# Altium schematic symbol library AirScoutSchLibV2.1.SchLib: 40 symbols
Pins are listed as number, name and electrical type; pins without a type are passive.

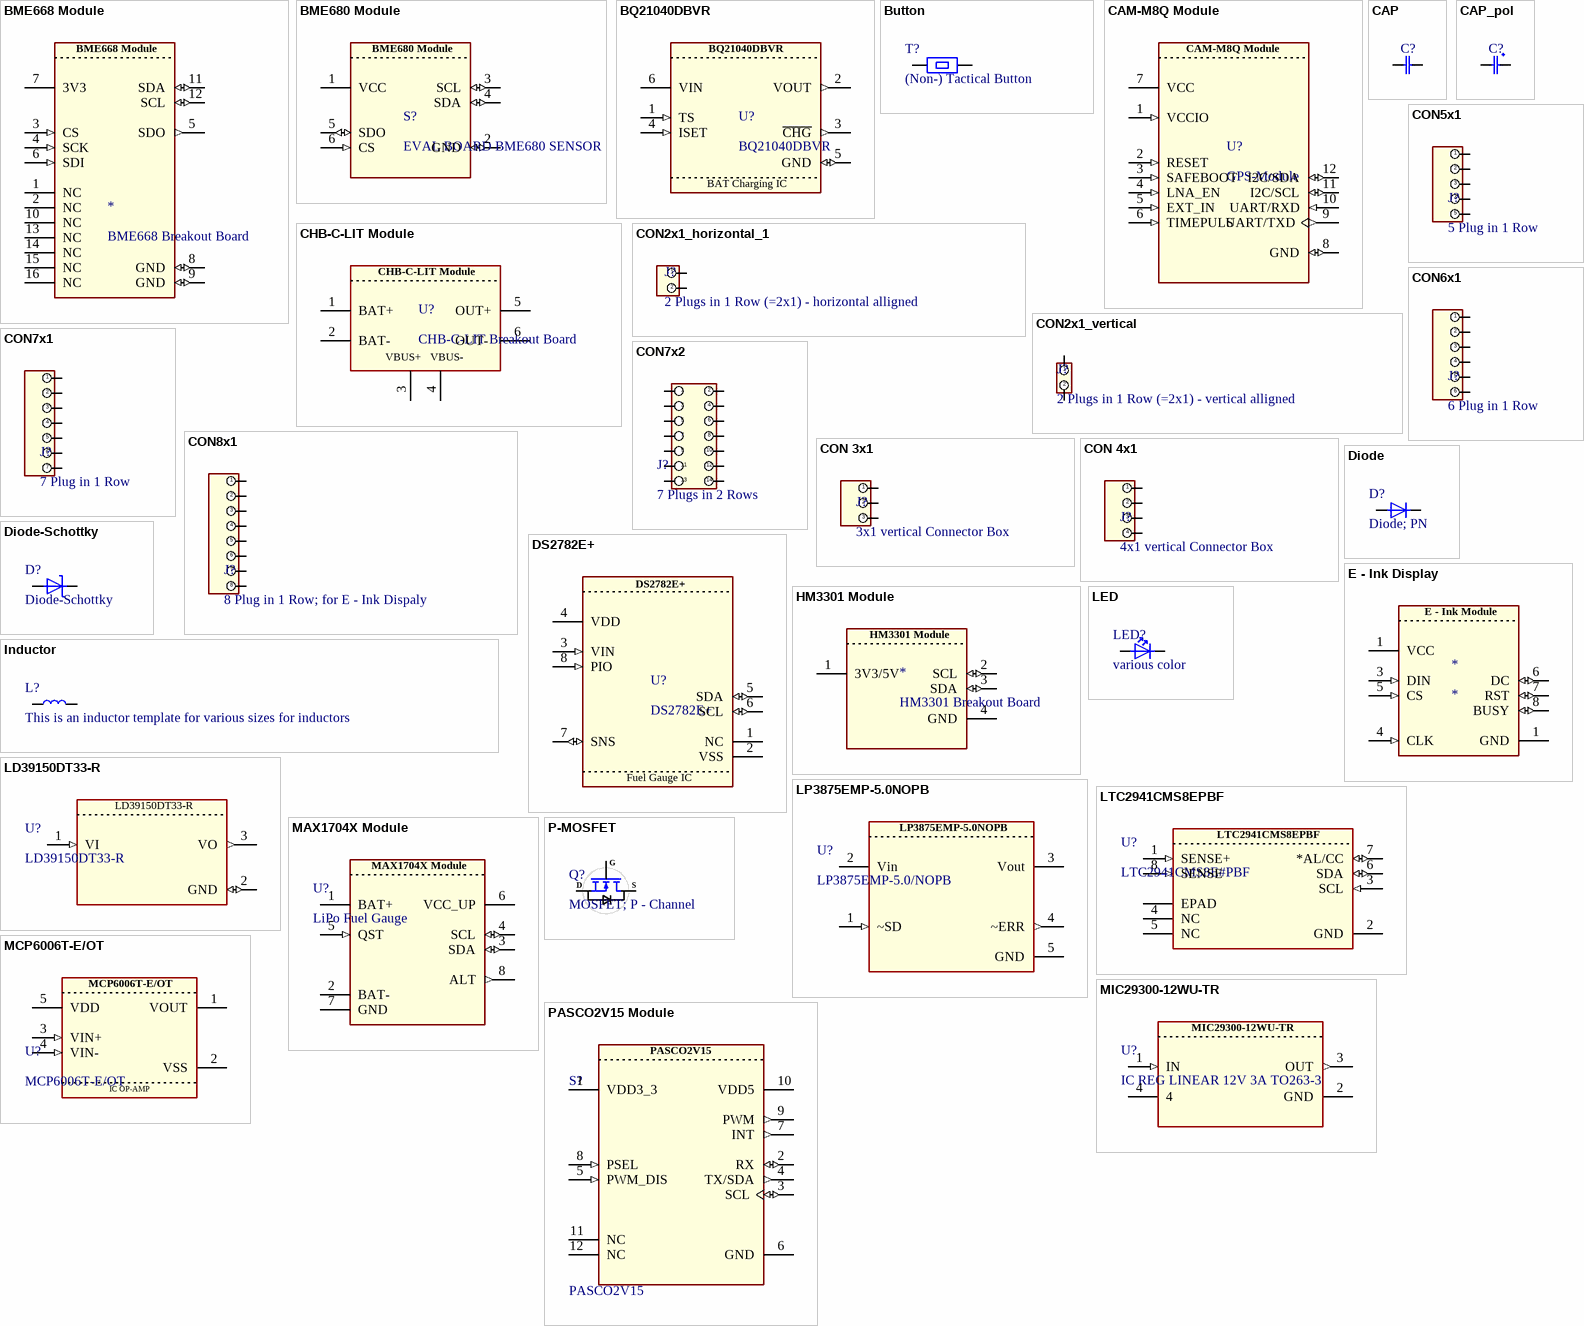
[diagram p0: symbols BME668 Module to PASCO2V15 Module]

## BME668 Module
designator *, comment BME668 Breakout Board
BME668: Air Quality Sensors Combined gas, humidity, pressure and temperature sensor; The sensor is installed on an Breakout-Board wich has oll the needed peripherie.; ComponentLink1Description: Datasheet; ComponentLink1URL: chrome-extension://efaidnbmnnnibpcajpcglclefindmkaj/https://docs.rs-online.com/c92c/A700000008937254.pdf
pins: 1 NC (hiz), 2 NC (hiz), 3 CS (in), 4 SCK (in), 5 SDO (out), 6 SDI (in), 7 3V3 (power), 8 GND (io), 9 GND (io), 10 NC (hiz), 11 SDA (io), 12 SCL (io), 13 NC (hiz), 14 NC (hiz), 15 NC (hiz), 16 NC (hiz)

## BME680 Module
designator S?, comment EVAL BOARD BME680 SENSOR
BME680 - Gas, Feuchtigkeit, Druck, Temperatur Evaluierungsboards - Sensoren; ComponentLink1Description: Datasheet; ComponentLink1URL: chrome-extension://efaidnbmnnnibpcajpcglclefindmkaj/https://mm.digikey.com/Volume0/opasdata/d220001/medias/docus/854/PIM357_Web.pdf
footprint PIM357 (With BME680 Sensor)
pins: 1 VCC (power), 2 GND (io), 3 SCL (io), 4 SDA (io), 5 SDO (io), 6 CS (in)

## BQ21040DBVR
designator U?
OVP (Over-Voltage-Protection), SCP (Short-Circuit- Protection), OTP (Over - Temp. - Prot.); 1-cell, 0.8-A Li-ion and Li-polymer battery charger; MF: Texas Instruments; SnapEDA_Link: https://www.snapeda.com/parts/BQ21040DBVR/Texas+Instruments/view-part/?ref=snap; Package: SOT-23-6 Texas Instruments; Value: *; MP: BQ21040DBVR; Check_prices: https://www.snapeda.com/parts/BQ21040DBVR/Texas+Instruments/view-part/?ref=eda
footprint SOT95P280X145-6N
pins: 1 TS (in), 2 VOUT (out), 3 ~{CHG} (out), 4 ISET (in), 5 GND (io), 6 VIN (power)
text: BAT Charging IC

## Button
designator T?, comment (Non-) Tactical Button
This schematic footprint canm be used for various buttons, such as tactical ones or not. Be aware that all footprints for each part is added correctly
pins: 1, 1

## CAM-M8Q Module
designator U?, comment GPS-Module
Is used to locate the objects wehre it is implemented, The Breakout Board uses the CAM-M8Q-0 for location detection; ComponentLink1Description: Datasheet IC; ComponentLink1URL: chrome-extension://efaidnbmnnnibpcajpcglclefindmkaj/https://content.u-blox.com/sites/default/files/CAM-M8-FW3_DataSheet_%28UBX-15031574%29.pdf
footprint CAM8MQ-Mod (For SMD Soldering)
pins: 1 VCCIO (in), 2 RESET (in), 3 SAFEBOOT (in), 4 LNA_EN (in), 5 EXT_IN (in), 6 TIMEPULS (in), 7 VCC (power), 8 GND (io), 9 UART/TXD (out), 10 UART/RXD (in), 11 I2C/SCL (io), 12 I2C/SDA (io)

## CAP
designator C?, comment Capacitor with no polarity  (value not drawn)
This is an unpoled capacitor such as an ceramik or an Multi - Layer Cap. Put in here the description of your component.; Value: *
footprint CAPC340180_140N_KEM (Caseform: 1206 Imperial; for Caps)
pins: 1, 2

## CAP_pol
designator C?, comment Capacitor with polarity  (value not drawn)
This is an poled capacitor such as an ELKOP. Insure proper polartiy when connecting the pins of the cap. Put in here the description of your component.; Value: *
footprint CAPC3225X270N (CAP 1210 Imperial)
pins: 1 M, 2 P

## CHB-C-LIT Module
designator U?, comment CHB-C-LIT Breakout Board
Charging Board via USB-C; Battery is connected via Cabel on two Ports; The circuit gets supplied via other pads from the board; Attetion: This board should be replaced with a better one
pins: 1 BAT+ (power), 2 BAT- (power), 3 VBUS+ (power), 4 VBUS- (power), 5 OUT+ (power), 6 OUT-  (power)

## CON2x1_horizontal_1
designator J?, comment 2 Plugs in 1 Row (=2x1) - horizontal alligned
Can be used as connection point with cables between two board or to create a connectrion to a sensor
footprint JST_B2B-PH-SM4-TB
pins: 1 +, 2 -

## CON2x1_vertical
designator J?, comment 2 Plugs in 1 Row (=2x1) - vertical alligned
Can be used as connection point with cables between two board or to create a connectrion to a sensor
footprint CON2x1
pins: 1 +, 2 -

## CON5x1
designator J?, comment 5 Plug in 1 Row
This part is used to plug in cables or a siutable Plug . So in that way a connection can be achieved between boards.
pins: 1, 2, 3, 4, 5

## CON6x1
designator J?, comment 6 Plug in 1 Row
This part is used to plug in cables or a siutable Plug . So in that way a connection can be achieved between boards.
footprint JST_B6B-PH-K-S
pins: 1, 2, 3, 4, 5, 6

## CON7x1
designator J?, comment 7 Plug in 1 Row
This part is used to plug in cables or a siutable Plug . So in that way a connection can be achieved between boards.
pins: 1, 2, 3, 4, 5, 6, 7

## CON7x2
designator J?, comment 7 Plugs in 2 Rows
This part is used to plug in cables or a siutable Plug . So in that way a connection can be achieved between boards.
footprint CONN_14POL_SAMTEC (0705430013)
pins: 1, 2, 3, 4, 5, 6, 7, 8, 9, 10, 11, 12, 13, 14

## CON8x1
designator J?, comment 8 Plug in 1 Row; for E - Ink Dispaly
This part is used to plug in cables or a siutable Plug . So in that way a connection can be achieved between boards.
pins: 1, 2, 3, 4, 5, 6, 7, 8

## CON 3x1
designator J?, comment 3x1 vertical Connector Box
Can be used to create connectivity between two plates with cables or similar.
footprint CONN_3POL_SAMTEC (0705430013)
pins: 1, 2, 3

## CON 4x1
designator J?, comment 4x1 vertical Connector Box
Can be used to create connectivity between two plates with cables or similar.
footprint SAMTEC_IDMS-04-S-02.00
pins: 1, 2, 3, 4

## Diode
designator D?, comment Diode; PN
Is used to block of current flow in one direction, Pay attetion to the maximum charactertcs
pins: 1 A, 2 K

## Diode-Schottky
designator D?
Is used to block of current flow in one direction, Pay attetion to the maximum charactertcs; In compariosion to other normal diodes the drop voltage UD is around 0.3V, so much smaller zthan an typical one
footprint SMB_DIO
pins: A, K

## DS2782E+
designator U?
UVP (Undervoltageprotection), Battery Battery Monitor IC Lithium Ion/Polymer 8-TSSOP; Package: None; Price: None; Value: *; MP: DS2782E+; Availability: Unavailable
footprint SOP65P640X110-8N
pins: 1 NC (power), 2 VSS (power), 3 VIN (in), 4 VDD (power), 5 SDA (io), 6 SCL (io), 7 SNS (io), 8 PIO (in)
text: Fuel Gauge IC

## E - Ink Display
designator *
pins: 1 VCC (power), 1 GND (power), 3 DIN (in), 4 CLK (in), 5 CS (in), 6 DC (io), 7 RST (io), 8 BUSY (io)
text: E - Ink Module

## HM3301 Module
designator *, comment HM3301 Breakout Board
Der HM3301-Sensor ermittelt die Feinstaub-Partikelkonzentration in der Luft mit Hilfe des Streulichtverfahrens ab einer Partikelgröße von 0,3 µm.; ComponentLink1Description: Datasheet; ComponentLink1URL: chrome-extension://efaidnbmnnnibpcajpcglclefindmkaj/https://joy-it.net/files/files/Produkte/SEN-HM3301/SEN-HM3301_Datenblatt_2022-07-15.pdf; ComponentLink2Description: EU Component; ComponentLink2URL: https://joy-it.net/de/products/sen-hm3301
pins: 1 3V3/5V, 2 SCL (io), 3 SDA (io), 4 GND

## Inductor
designator L?, comment This is an inductor template for various sizes for inductors
Value: *
footprint IND_FDSD0420-H-100M=P3
pins: 1, 2

## LD39150DT33-R
designator U?
Ultra low drop BiCMOS voltage regulator; Manufacturer_Name: STMicroelectronics; Copyright: Copyright (C) 2025 Ultra Librarian. All rights reserved.; Manufacturer_Part_Number: LD39150DT33-R; Datasheet: https://www.st.com/resource/en/datasheet/ld39150.pdf; RefDes: RefDes; Type: Type
footprint SOT_0DT33-R_STM
pins: 1 VI (in), 2 GND (io), 3 VO (out)

## LED
designator LED?, comment various color
LED in diffrent colors
footprint LED_LTST-C150GKT_LTO
pins: 1 A, 2 K

## LP3875EMP-5.0NOPB
designator U?, comment LP3875EMP-5.0/NOPB
IC REG LINEAR 5V 1.5A SOT-223-5; Digikey Part-Nbr.: LP3875EMP-5.0/NOPBTR-ND; Manufacturer_Name: Texas Instruments; Type: LP3875EMP-1.8; Copyright: Copyright (C) 2025 Ultra Librarian. All rights reserved.; Manufacturer_Part_Number: LP3875EMP-5.0/NOPB; Datasheet: https://www.ti.com/lit/gpn/lp3875; RefDes: RefDes
footprint MP05A
pins: 1 ~SD (in), 2 Vin (power), 3 Vout (power), 4 ~ERR (out), 5 GND

## LTC2941CMS8EPBF
designator U?, comment LTC2941CMS8E#PBF
Battery Gas Gauge with I2C Interface; Manufacturer_Name: Analog Devices Inc; Copyright: Copyright (C) 2025 Ultra Librarian. All rights reserved.; Manufacturer_Part_Number: LTC2941CMS8E#PBF; Datasheet: https://www.analog.com/media/en/technical-documentation/data-sheets/LTC2941.pdf; RefDes: RefDes; Type: Type
footprint MSE_8_ADI-L
pins: 1 SENSE+ (in), 2 GND (power), 3 SCL (in), 4 NC, 5 NC, 6 SDA (io), 7 *AL/CC (io), 8 SENSE (in), EPAD

## MAX1704X Module
designator U?, comment LiPo Fuel Gauge
footprint MAX1704X Module (Breakout Board)
pins: 1 BAT+ (power), 2 BAT- (power), 3 SDA (io), 4 SCL (io), 5 QST (in), 6 VCC_UP (power), 7 GND (power), 8 ALT (out)

## MCP6006T-E/OT
designator U?
IC OPAMP GP 1 CIRCUIT SOT23-5
footprint SOT23-5-AP2202K_DIO-M
pins: 1 VOUT (power), 2 VSS (power), 3 VIN+ (in), 4 VIN- (in), 5 VDD (power)
text: IC OP-AMP

## MIC29300-12WU-TR
designator U?, comment IC REG LINEAR 12V 3A TO263-3
PMIC - Spannungsregler - Linear Positiv Fest 1 Ausgang 3A TO-263-3; Manufacturer_Name: Microchip; Manufacturer_Part_Number: MIC29300-12WU-TR; Copyright: Copyright (C) 2025 Ultra Librarian. All rights reserved.; RefDes: RefDes; Type: Type
footprint TO-263-3_MCH-M
pins: 1 IN (in), 2 GND (power), 3 OUT (out), 4

## P-MOSFET
designator Q?, comment MOSFET; P - Channel
In this component, the parasitic diode is included because it plays an important rolw hen analysing networks
footprint TO229P994X241-3N-V (TO,2.29mm pitch;2 pin,9.94mm L X 6.095mm W X 2.41mm H body)
pins: 1 D, 2 G, 3 S

## PASCO2V15 Module
designator S?, comment PASCO2V15
XENSIV PAS CO2 1.5; Alternate View: No; Symbol Type: XENSIV PAS CO2 1.5; Multiple Parts: No; ComponentLink1Description: Datasheet; ComponentLink1URL: chrome-extension://efaidnbmnnnibpcajpcglclefindmkaj/https://www.infineon.com/assets/row/public/documents/24/49/infineon-pasco2v01-datasheet-en.pdf?fileId=8ac78c8c80027ecd01809278f1af1ba2
footprint IFX-SMD-LG-MLGA-14-1-V_MODUL (Module, 2.54 mm Pitch, 14 Pin, 14.00 mm W X 13.80 mm L X 7.68 mm H Body)
pins: 1 VDD3_3 (power) "3.3V digital power supply", 2 RX (io) "UART receiver pin (3.3V domain)", 3 SCL (io) "I2C clock pin (3.3V domain)", 4 TX/SDA (out) "UART transmitter pin (3.3V domain) / I2C data pin (3.3V domain)", 5 PWM_DIS (in) "PWM disable input pin (3.3V domain)", 6 GND (power) "Ground", 7 INT (out) "Interrupt output pin (3.3V domain)", 8 PSEL (in) "Communication interface select input pin (3.3V domain)", 9 PWM (out) "PWM output pin (3.3V domain)", 10 VDD5 (power) "5V power supply for the IR emitter", 11 NC (power) "Connected to Ground", 12 NC "Not Connected"

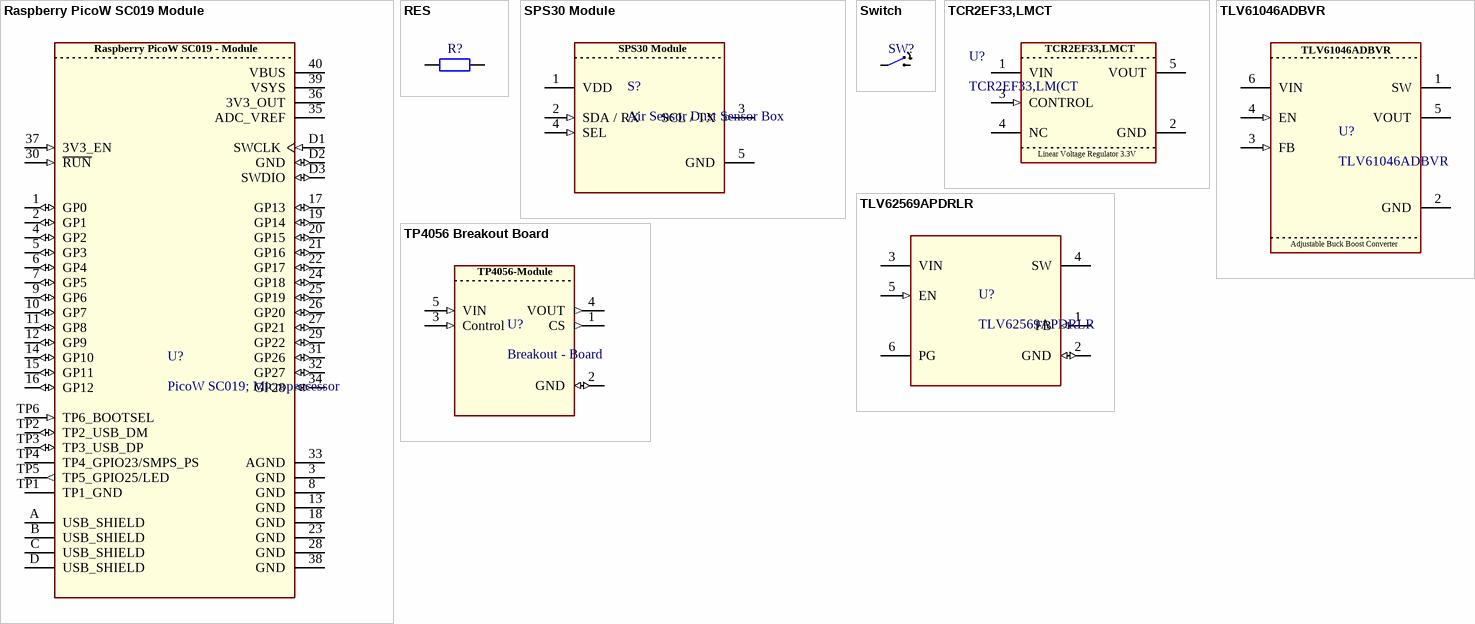
[diagram p1: symbols Raspberry PicoW SC019 Module to TP4056 Breakout Board]

## Raspberry PicoW SC019 Module
designator U?, comment PicoW SC019; Microprocessor
Is a uC equipped with the Raspberry System. It can be bougth as an EU component. Look below in Paramters; ComponentLink1Description: EU Component; ComponentLink1URL: https://www.reichelt.at/at/de/shop/produkt/raspberry_pi_pico_rp2040_cortex-m0_microusb-295706; ComponentLink2Description: Datasheet; ComponentLink2URL: chrome-extension://efaidnbmnnnibpcajpcglclefindmkaj/https://datasheets.raspberrypi.com/picow/pico-w-datasheet.pdf
footprint PicoW SC019 (For Description look into Schematics)
pins: 1 GP0 (io), 2 GP1 (io), 3 GND (power), 4 GP2 (io), 5 GP3 (io), 6 GP4 (io), 7 GP5 (io), 8 GND (power), 9 GP6 (io), 10 GP7 (io), 11 GP8 (io), 12 GP9 (io), 13 GND (power), 14 GP10 (io), 15 GP11 (io), 16 GP12 (io), 17 GP13 (io), 18 GND (power), 19 GP14 (io), 20 GP15 (io), 21 GP16 (io), 22 GP17 (io), 23 GND (power), 24 GP18 (io), 25 GP19 (io), 26 GP20 (io), 27 GP21 (io), 28 GND (power), 29 GP22 (io), 30 ~{RUN} (in), 31 GP26 (io), 32 GP27 (io), 33 AGND (power), 34 GP28 (io), 35 ADC_VREF (power), 36 3V3_OUT (power), 37 3V3_EN (in), 38 GND (power), 39 VSYS (power), 40 VBUS (power), A USB_SHIELD (power), B USB_SHIELD (power), C USB_SHIELD (power), D USB_SHIELD (power), D1 SWCLK (in), D2 GND (io), D3 SWDIO (io), TP1 TP1_GND (power), TP2 TP2_USB_DM (io), TP3 TP3_USB_DP (io), TP4 TP4_GPIO23/SMPS_PS, TP5 TP5_GPIO25/LED (out), TP6 TP6_BOOTSEL (in)
text: Raspberry PicoW SC019 - Module

## RES
designator R?, comment Resistor of any value  (value not drawn)
Put in here the type and descriüption of your component; Value: *
footprint RESC3116X65N (Caseform: 1206 Imperial)
pins: 1, 2

## SPS30 Module
designator S?, comment Air Sensor Dust Sensor Box
ComponentLink1Description: Datasheet; ComponentLink1URL: https://sensirion.com/media/documents/8600FF88/64A3B8D6/Sensirion_PM_Sensors_Datasheet_SPS30.pdf; ComponentLink2Description: EU Component; ComponentLink2URL: https://www.digikey.at/en/products/detail/sensirion-ag/SPS30/9598990?gclsrc=aw.ds&gad_source=1&gad_campaignid=9415055229&gbraid=0AAAAADrbLlghU28cdFM9RQIiS448Os4NQ&gclid=Cj0KCQjwzt_FBhCEARIsAJGFWVladtv1vxGMu0RXHFTM9ng6qsDvV838Q-BR2Fl5FYFzWahIkC0y_aYaAqE3EALw_wcB
footprint CONN5_B5B-ZR_JST
pins: 1 VDD, 2 SDA / RX (in), 3 SCL / TX (out), 4 SEL (in), 5 GND

## Switch
designator SW?  (value not drawn)
Put in here a switch with an OFFSET - Pin, like an ON/OFF Switch (2 Position Switch)
footprint SW_PTS647SM38SMTR2LFS_CNK
pins: 1, 2

## TCR2EF33,LMCT
designator U?, comment TCR2EF33,LM(CT
IC REG LINEAR 3.3V 200MA SMV; Manufacturer_Name: Toshiba Electronic Devices & Storage Corp.; Copyright: Copyright (C) 2025 Ultra Librarian. All rights reserved.; Manufacturer_Part_Number: TCR2EF33,LM(CT; RefDes: RefDes; Type: Type
footprint SOT-25   SMV_TOS
pins: 1 VIN (power), 2 GND (power), 3 CONTROL (in), 4 NC, 5 VOUT (power)
text: Linear Voltage Regulator 3.3V

## TLV61046ADBVR
designator U?
28-V Output Voltage Boost Converter with Power Diode and Isolation Switch 6-SOT-23 -40 to 125; Manufacturer_Name: Texas Instruments; TYPE: TYPE; RefDes: RefDes; Copyright: Copyright (C) 2025 Ultra Librarian. All rights reserved.; Manufacturer_Part_Number: TLV61046ADBVR
footprint DBV0006A_M
pins: 1 SW (power), 2 GND (power), 3 FB (in), 4 EN (in), 5 VOUT (power), 6 VIN (power)
text: Adjustable Buck Boost Converter

## TLV62569APDRLR
designator U?
2A High Efficiency Step-down Buck Converter with forced PWM in SOT Package 6-SOT-5X3 -40 to 125; Manufacturer_Name: Texas Instruments; TYPE: TYPE; RefDes: RefDes; Copyright: Copyright (C) 2025 Ultra Librarian. All rights reserved.; Manufacturer_Part_Number: TLV62569APDRLR; Datasheet: https://www.ti.com/lit/gpn/tlv62569a
footprint DRL0006A
pins: 1 FB (in), 2 GND (io), 3 VIN (power), 4 SW (power), 5 EN (in), 6 PG (oc)

## TP4056 Breakout Board
designator U?, comment Breakout - Board
This is an Breakout Board designed for the TP4056, an Mikrocontroller which us used for Charging Batterys
pins: 1 CS (out), 2 GND (io), 3 Control (in), 4 VOUT (out), 5 VIN (in)
text: TP4056-Module